# Altium footprint library F05_XT-1WR3.PcbLib: 1 footprints
Each footprint in its own frame and in the unit in brackets; x right, y up, seen from the top. Pads: shape width x height; smd on the part's side, far side on the other; paste and mask are expansions set on the pad; w line width, h text height; cw(c..) or ccw(c..) is an arc to the next point about the centre after c.
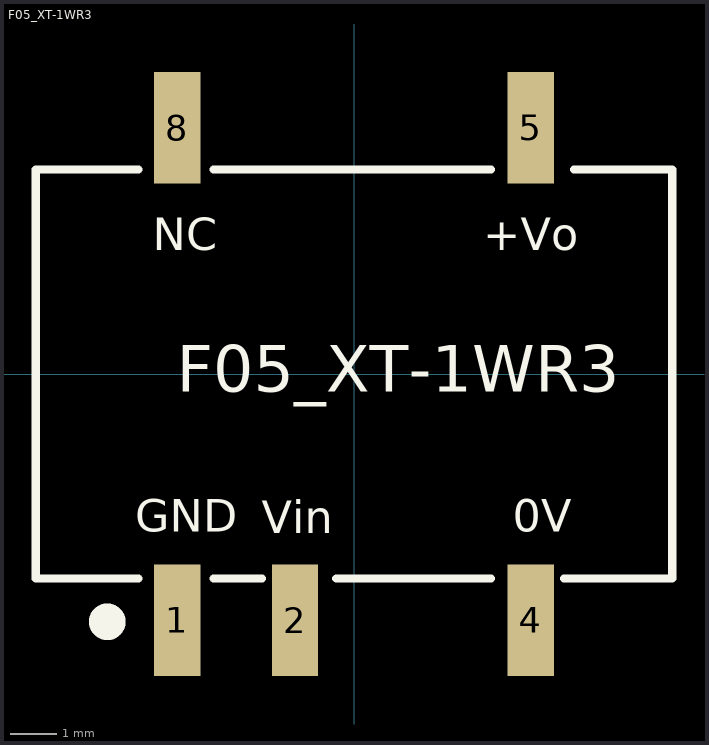
[diagram p0: the footprint, top view; thin cyan lines are the x and y axes]

## F05_XT-1WR3 [mm]
height 14.25
pads (5):
  rect 1x2.4 smd: 1(-3.81,-5.3) 2(-1.27,-5.3) 4(3.81,-5.3) 5(3.81,5.3) 8(-3.81,5.3)
Top Overlay:
  circle w0.6: c-5.311,-5.334 r0.094
  lines w0.178: -4.642,-4.4 -6.85,-4.4 -6.85,4.4 -4.642,4.4 ; -3.024,-4.4 -1.981,-4.4 ; -3.024,4.4 2.949,4.4 ; -0.38,-4.4 2.949,-4.4 ; 4.521,-4.4 6.85,-4.4 6.85,4.4 4.736,4.4
  text "F05_XT-1WR3" at -3.82,-0.381 h1
  text "GND" at -4.709,-3.396 h0.7
  text "Vin" at -1.981,-3.429 h0.7
  text "0V" at 3.419,-3.396 h0.7
  text "+Vo" at 2.784,2.667 h0.7
  text "NC" at -4.328,2.667 h0.7